# Altium footprint library personal_library.PcbLib: 59 footprints (part 2 of 4)
Each footprint in its own frame and in the unit in brackets; x right, y up, seen from the top. Pads: shape width x height; smd on the part's side, far side on the other; paste and mask are expansions set on the pad; w line width, h text height; cw(c..) or ccw(c..) is an arc to the next point about the centre after c.
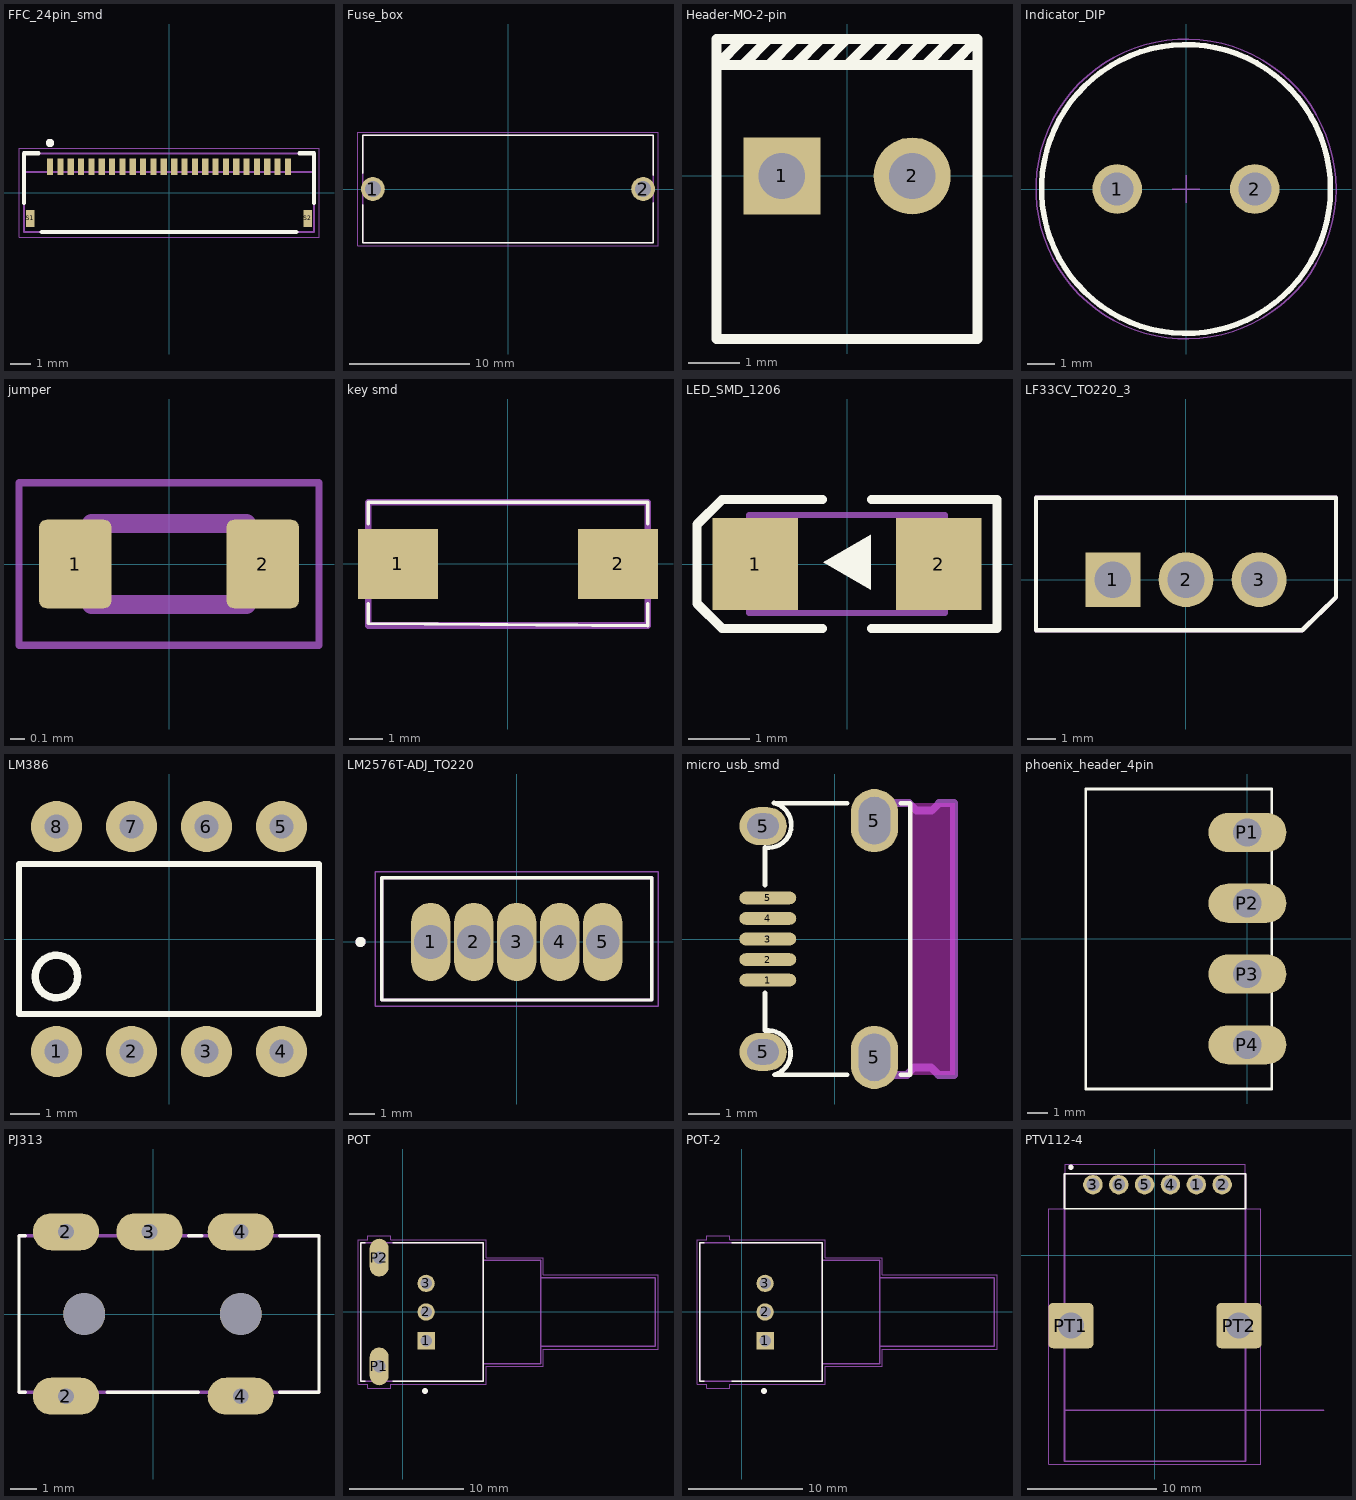
[diagram p1: the footprints below, top view; thin cyan lines are the x and y axes]

## FFC_24pin_smd [mm]
pads (26):
  rect 0.3x0.8 smd: 1(-5.75,1.25) 2(-5.25,1.25) 3(-4.75,1.25) 4(-4.25,1.25) 5(-3.75,1.25) 6(-3.25,1.25) 7(-2.75,1.25) 8(-2.25,1.25) 9(-1.75,1.25) 10(-1.25,1.25) 11(-0.75,1.25) 12(-0.25,1.25) 13(0.25,1.25) 14(0.75,1.25) 15(1.25,1.25) 16(1.75,1.25) 17(2.25,1.25) 18(2.75,1.25) 19(3.25,1.25) 20(3.75,1.25) 21(4.25,1.25) 22(4.75,1.25) 23(5.25,1.25) 24(5.75,1.25)
  rect 0.4x0.8 smd: S1(-6.7,-1.25) S2(6.7,-1.25)
Top Overlay:
  circle w0.2: c-5.75,2.4 r0.1
  lines w0.2: -7,-0.5 -7,1.9 -6.3,1.9 ; -6.15,-1.9 6.15,-1.9 ; 6.3,1.9 7,1.9 7,-0.5
Mechanical 13:
  circle w0.2: c-5.75,2.4 r0.1
  lines w0.1: -7,1 -7,-1.9 7,-1.9 7,1 ; -7,1 -7,1.9 7,1.9 7,1 ; -7,1 7,1
Mechanical 15:
  lines w0.05: -7.25,-2.15 -7.25,2.15 7.25,2.15 7.25,-2.15 -7.25,-2.15
3D body "step_temp.STEP": height 1.1, standoff 0, extent -7,-1.9 7,1.9

## Fuse_box [mm]
pads (2):
  round 1.98 hole 1.32: 1(-11.25,0) 2(11.25,0)
Top Overlay:
  lines w0.127: -12.105,-1.32 -12.105,-4.495 12.105,-4.495 12.105,-1.15 ; -12.105,1.32 -12.105,4.495 12.105,4.495 12.105,1.15
Mechanical 13:
  lines w0.127: -12.105,-4.495 -12.105,4.495 12.105,4.495 12.105,-4.495 -12.105,-4.495
Mechanical 15:
  lines w0.05: -12.49,-4.745 -12.49,4.745 12.49,4.745 12.49,-4.745 -12.49,-4.745
3D body "step_temp.STEP": height 11.99, standoff -3.96, extent -12.103,-4.496 12.103,4.496

## Header-MO-2-pin [mm]
pads (2):
  rect 1.5x1.5 hole 0.9: 1(-1.27,0)
  round 1.5 hole 0.9: 2(1.27,0)
Top Overlay:
  lines w0.2: -2.032,2.159 -1.524,2.667 ; -2.032,2.667 -2.54,2.159 ; -1.524,2.159 -1.016,2.667 ; -1.016,2.159 -0.508,2.667 ; -0.508,2.159 0,2.667 ; 0,2.159 0.508,2.667 ; 0.508,2.159 1.016,2.667 ; 1.016,2.159 1.524,2.667 ; 1.524,2.159 2.032,2.667 ; 2.032,2.159 2.54,2.667 ; 2.54,2.159 1.651,2.159 -2.54,2.159 ; -2.54,2.159 -2.54,2.667 ; -2.54,2.667 2.54,2.667 ; -2.54,2.667 -2.54,-3.175 2.54,-3.175 2.54,2.667
3D body "Wire to Board Male 1x2 Pitch 2,54mm White.stp": height 11.51, standoff -3.39, extent -2.54,-3.2 2.54,2.6

## Indicator_DIP [mm]
pads (2):
  round 1.8 hole 1.2: 1(-2.5,0) 2(2.5,0)
Top Overlay:
  circle w0.2: c0,0 r5.25
Assembly Notes:
  circle w0.05: c0,0 r5.45
Top Component Outline:
  circle w0.1: c0,0 r5.25
Top Component Center:
  lines w0.05: -0.5,0 0.5,0 ; 0,-0.5 0,0.5
3D body "Download_STP_WE-TI_8075_744732xxx_rev1.stp": height 7.24, standoff -5.46, extent -4.097,-4.1 4.097,4.093

## jumper [mm]
pads (2):
  rrect20% 0.49x0.6 smd: 1(-0.635,0) 2(0.635,0)
Mechanical 13:
  lines w0.127: -0.525,-0.275 0.525,-0.275 0.525,0.275 -0.525,0.275 -0.525,-0.275
Mechanical 15:
  lines w0.05: -1.016,-0.55 1.016,-0.55 1.016,0.55 -1.016,0.55 -1.016,-0.55

## key smd [mm] "tac switch"
pads (2):
  rect 2.4x2.1 smd: 1(-3.3,0) 2(3.3,0)
Top Overlay:
  lines w0.1: -4.191,-1.2 -4.191,-1.791 4.191,-1.859 4.191,-1.2 ; -4.191,1.2 -4.191,1.85 4.191,1.85 4.191,1.2
Mechanical 13:
  lines w0.2: -4.191,-1.85 4.191,-1.85 4.191,1.85 -4.191,1.85 -4.191,-1.85
3D body "PTS636 SM43J SMTR LFS--3DModel-STEP-56544.STEP": height 4.3, standoff 0, extent -3.55,-1.75 3.55,1.75

## LED_SMD_1206 [mm]
pads (2):
  rect 1.4x1.5 smd: 1(-1.5,0) 2(1.5,0)
Top Overlay:
  region: -0.39,0.025 0.39,0.475 0.39,-0.425
  lines w0.15: -0.4,-1.054 -2.046,-1.054 -2.454,-0.646 -2.454,0.646 -2.046,1.054 -0.4,1.054 ; 0.4,-1.054 2.454,-1.054 2.454,1.054 0.4,1.054
Mechanical 13:
  lines w0.1: -1.6,-0.8 1.6,-0.8 1.6,0.8 -1.6,0.8 -1.6,-0.8
3D body "WL-SMCW_1206_LED.stp": height 0.68, standoff 0, extent -1.6,-0.8 1.6,0.8

## LF33CV_TO220_3 [mm]
pads (3):
  rect 1.905x1.905 / inner round 1.905 / far side rect 1.905x1.905 hole 1.27: 1(-2.54,0)
  round 1.905 hole 1.27: 2(0,0) 3(2.54,0)
Top Overlay:
  lines w0.152: -5.207,-1.753 -5.207,2.845 5.207,2.845 5.207,-0.61 4.039,-1.753 -5.207,-1.753
Mechanical 13:
  lines w0.152: -5.207,-1.753 -5.207,2.845 5.207,2.845 5.207,-0.61 4.039,-1.753 -5.207,-1.753
3D body "step_temp.STEP": height 19.68, standoff -9.22, extent -5.1,-1.666 5.1,2.834

## LM386 [mil]
pads (8):
  round 68 hole 32: 1(-150,-150) 2(-50,-150) 3(50,-150) 4(150,-150) 5(150,150) 6(50,150) 7(-50,150) 8(-150,150)
Top Overlay:
  circle w10: c-150,-50 r28.28
  lines w8: -200,-40 -200,-60 ; -200,-60 -200,100 200,100 200,-100 -200,-100 -200,-60
3D body "step_temp.STEP": height 210, standoff -150, extent -182.5,-215 182.5,215

## LM2576T-ADJ_TO220 [mm]
pads (5):
  oval 1.55x3.1 hole 1.34: 1(-3.4,0) 2(-1.7,0) 3(0,0) 4(1.7,0) 5(3.4,0)
Top Overlay:
  circle w0.2: c-6.175,0 r0.1
  lines w0.127: -5.335,-2.29 5.335,-2.29 5.335,2.54 -5.335,2.54 -5.335,-2.29
Mechanical 13:
  circle w0.2: c-6.175,0 r0.1
  lines w0.127: -5.335,-2.29 5.335,-2.29 5.335,2.54 -5.335,2.54 -5.335,-2.29
Mechanical 15:
  lines w0.05: -5.585,-2.54 5.585,-2.54 5.585,2.775 -5.585,2.775 -5.585,-2.54
3D body "step_temp.STEP": height 16.84, standoff -14.73, extent -5.08,-1.905 5.08,2.54

## micro_usb_smd [mm] "4 pin holder"
pads (9):
  oval 1.8x0.4 smd mask+0.05: 1(-2.12,-1.3) 2(-2.12,-0.65) 3(-2.12,0) 4(-2.12,0.65) 5(-2.12,1.3)
  oval 1.5x1.2 hole 0.8 slot 1 at 0 deg mask+0.05: 5(-2.27,-3.575) 5(-2.27,3.575)
  oval 1.5x2 hole 1 slot 1.5 at 90 deg mask+0.05: 5(1.255,-3.75) 5(1.255,3.75)
Top Overlay:
  lines w0.15: -2.208,-1.7 -2.208,-2.9 cw(c-2.118,-3.613) -1.908,-4.3 0.392,-4.3 ; -2.208,1.7 -2.208,2.9 ccw(c-2.095,3.609) -1.924,4.307 ; -1.908,4.3 0.392,4.3 ; 2.092,-4.3 2.392,-4.3 2.392,4.288 2.38,4.3 2.092,4.3
Keep-Out Layer:
  board cut-out: 2.38,4.3 3.792,4.3 3.792,-4.3 2.38,-4.3
Mechanical 1:
  lines w0.1: 2.374,-3.8 2.374,3.8
  text "PCB EDGE" at 2.58,1.8 h0.5
Mechanical 13:
  lines w0.254: 1.78,-4.3 2.28,-4.3 2.516,-4.064 3.044,-4.064 3.28,-4.3 3.78,-4.3 3.78,4.3 3.305,4.3 3.069,4.064 2.591,4.064 2.355,4.3 1.88,4.3
3D body "48281.stEp": height 2.8, standoff -0.6, extent -2.02,-4.325 3.878,4.325

## phoenix_header_4pin [mm]
pads (4):
  oval 3.861x1.93 hole 1.4: P1(0,5.25) P2(0,1.75) P3(0,-1.75) P4(0,-5.25)
Top Overlay:
  lines w0.127: -8,-7.437 1.2,-7.437 1.2,7.4 -8,7.4 -8,-7.437
3D body "step_temp.STEP": height 7.24, standoff -3.4, extent -8,-7.09 1.2,7.71

## PJ313 [mm]
pads (7):
  oval 2.54x1.422 hole 0.6: 2(-3.35,-3.15) 2(-3.35,3.15) 3(-0.15,3.15) 4(3.35,-3.15) 4(3.35,3.15)
  round 1.6 hole 1.6 unplated: ""(-2.65,0) ""(3.35,0)
Top Overlay:
  lines w0.127: -4.9,-3 -5.15,-3 -5.15,3 -4.9,3 ; -1.775,-3 1.725,-3 ; 1.35,3 1.85,3 ; 4.85,-3 6.35,-3 6.35,3 4.85,3
Mechanical 1:
  region: 0.5,2.75 -0.8,2.75 -0.8,3.55 0.5,3.55
  region: 4,-3.55 2.7,-3.55 2.7,-2.75 4,-2.75
  region: 4,2.75 2.7,2.75 2.7,3.55 4,3.55
  region: -2.7,-3.55 -4,-3.55 -4,-2.75 -2.7,-2.75
  region: -2.7,2.75 -4,2.75 -4,3.55 -2.7,3.55
Mechanical 13:
  lines w0.127: -5.15,-3 6.35,-3 ; -5.15,3 6.35,3
3D body "SJ-3503-SMT-TR--3DModel-STEP-1.STEP": height 6.06, standoff 0.16, extent -6.38,-4.318 7.62,4.282

## POT [mm]
pads (5):
  rect 1.508x1.508 hole 1: 1(2.05,-2.5)
  round 1.508 hole 1: 2(2.05,0) 3(2.05,2.5)
  oval 1.65x3.3 hole 1.1 square: P1(-2.05,-4.75) P2(-2.05,4.75)
Top Overlay:
  circle w0.3: c1.95,-6.9 r0.1
  lines w0.127: -3.25,-6.05 -3.65,-6.05 -3.65,6.05 -3.25,6.05 ; -0.85,-6.05 7.05,-6.05 7.05,6.05 -0.85,6.05
Mechanical 13:
  circle w0.3: c1.95,-6.9 r0.1
  lines w0.127: 7.05,-4.5 12.05,-4.5 12.05,-3 ; 7.05,-4.5 7.05,4.5 ; 7.05,-4.5 7.05,-6.05 -3.65,-6.05 -3.65,6.05 7.05,6.05 7.05,4.5 ; 7.05,4.5 12.05,4.5 12.05,3 ; 12.05,-3 22.05,-3 22.05,3 12.05,3 ; 12.05,-3 12.05,3
Mechanical 15:
  lines w0.05: -3.9,-6.3 -3.9,6.3 -3.05,6.3 -3.05,6.65 -1.05,6.65 -1.05,6.3 7.3,6.3 7.3,4.75 12.3,4.75 12.3,3.25 22.3,3.25 22.3,-3.25 12.3,-3.25 12.3,-4.75 7.3,-4.75 7.3,-6.3 -1.05,-6.3 -1.05,-6.65 -3.05,-6.65 -3.05,-6.3 -3.9,-6.3
3D body "rk09l1120a2s.stp": height 12.47, standoff -2.38, extent -3.701,-6.05 21.999,6.05

## POT-2 [mm]
pads (3):
  rect 1.508x1.508 hole 1: 1(2.05,-2.5)
  round 1.508 hole 1: 2(2.05,0) 3(2.05,2.5)
Top Overlay:
  circle w0.3: c1.95,-6.9 r0.1
  lines w0.127: -3.25,-6.05 -3.65,-6.05 -3.65,6.05 -3.25,6.05 ; -0.85,-6.05 7.05,-6.05 7.05,6.05 -0.85,6.05
Mechanical 13:
  circle w0.3: c1.95,-6.9 r0.1
  lines w0.127: 7.05,-4.5 7.05,-6.05 -3.65,-6.05 -3.65,6.05 7.05,6.05 7.05,4.5 ; 7.05,-4.5 7.05,4.5 ; 7.05,-4.5 12.05,-4.5 12.05,-3 ; 7.05,4.5 12.05,4.5 12.05,3 ; 12.05,-3 12.05,3 ; 12.05,-3 22.05,-3 22.05,3 12.05,3
Mechanical 15:
  lines w0.05: -3.9,-6.3 -3.05,-6.3 -3.05,-6.65 -1.05,-6.65 -1.05,-6.3 7.3,-6.3 7.3,-4.75 12.3,-4.75 12.3,-3.25 22.3,-3.25 22.3,3.25 12.3,3.25 12.3,4.75 7.3,4.75 7.3,6.3 -1.05,6.3 -1.05,6.65 -3.05,6.65 -3.05,6.3 -3.9,6.3 -3.9,-6.3
3D body "rk09l1120a2s.stp": height 12.47, standoff -2.38, extent -3.701,-6.05 21.999,6.05

## PTV112-4 [mm]
pads (8):
  round 1.508 hole 1: 1(3.198,5.45) 2(5.198,5.45) 3(-4.802,5.45) 4(1.198,5.45) 5(-0.802,5.45) 6(-2.802,5.45)
  rrect20% 3.5x3.5 hole 2: PT1(-6.5,-5.45) PT2(6.5,-5.45)
Top Overlay:
  circle w0.2: c-6.5,6.8 r0.1
  lines w0.127: -7,3.6 7,3.6 7,6.3 -7,6.3 -7,3.6
Mechanical 1:
  lines w0.127: 7,-15.95 -7,-15.95 -7,6.3 7,6.3
Mechanical 13:
  circle w0.2: c-6.5,6.8 r0.1
  lines w0.127: -6.95,-12 13.05,-12 ; 7,-15.95 7,6.25
  text "PCB EDGE" at 9,-11.45 h1.02
Mechanical 15:
  lines w0.05: -8.2,-16.15 8.2,-16.15 8.2,3.6 7,3.6 7,6.45 7,7.05 3.05,7.05 -6.95,7.05 -6.95,3.6 -8.2,3.6 -8.2,-16.15
3D body "PTV112-4420A-B503--3DModel-STEP-269445.STEP": height 22, standoff -1.8, extent -7,-11.95 7.4,5.65